# Altium schematic symbol library PARSEC(1).SchLib: 17 symbols
Pins are listed as number, name and electrical type; pins without a type are passive.

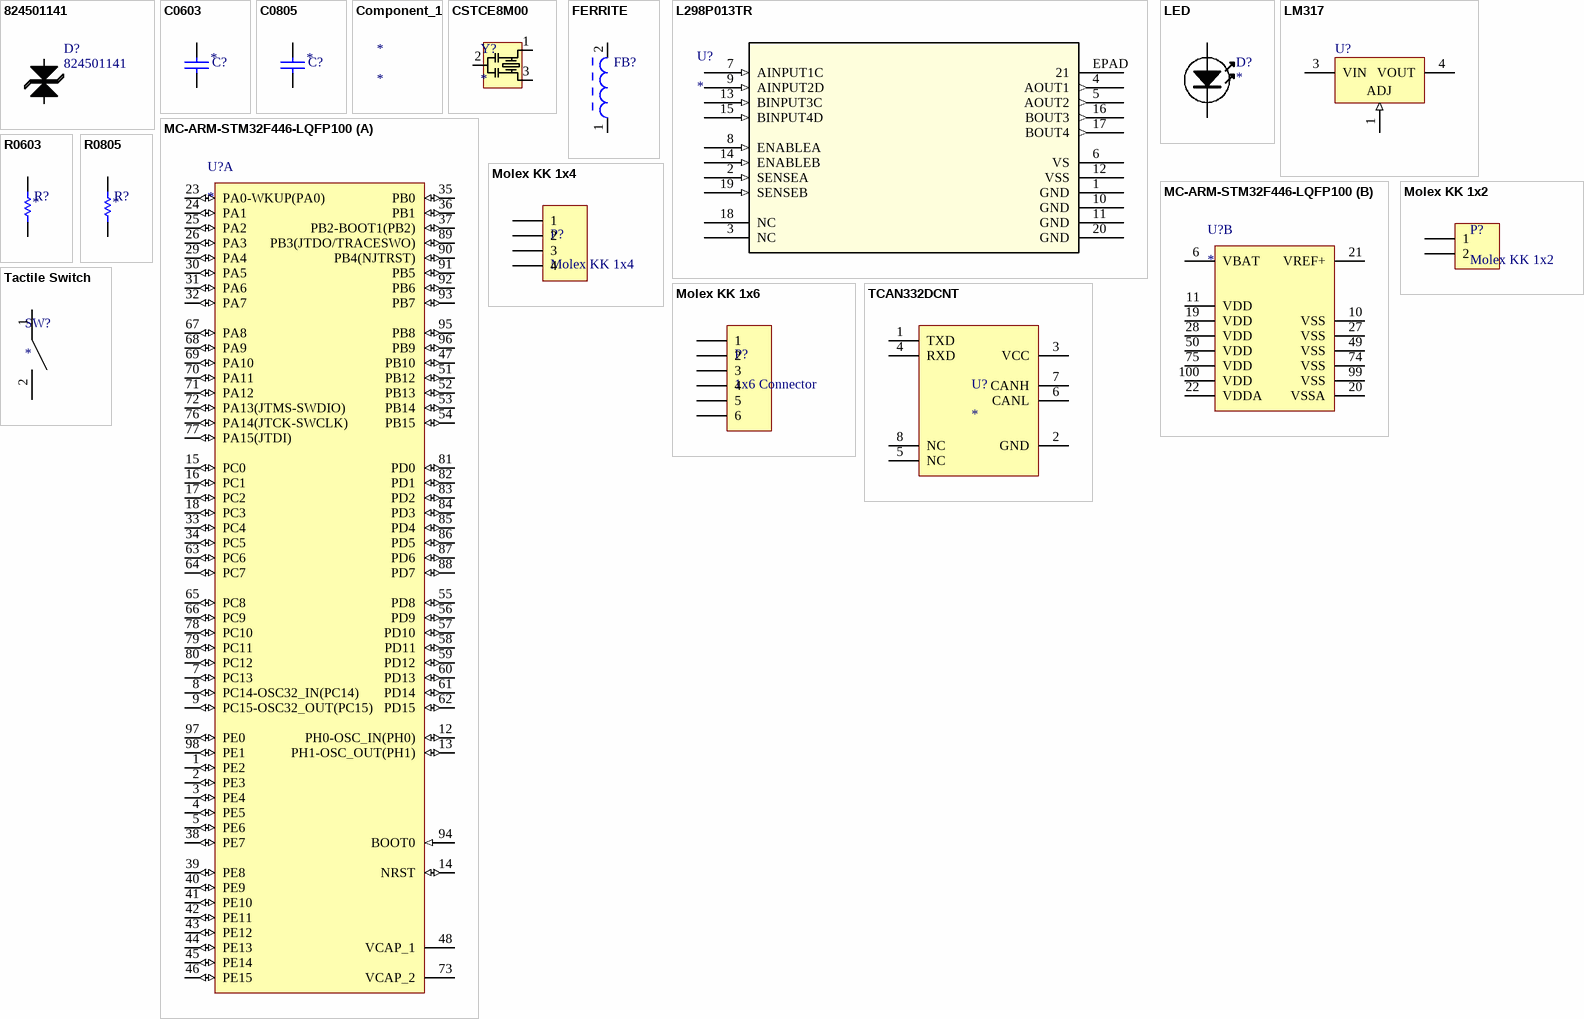
[diagram p0: symbols 824501141 to TCAN332DCNT]

## 824501141
designator D?
TVS DIODE 14V 23.2V DO214AC; Supplier 1: Digi-Key; Supplier Part Number 1: SMCJ120CABTR-ND
footprint DIODE-SMA
pins: A, K
2 alternate drawings of the same symbol

## C0603
designator C?
0603 Capacitor; Value: *
footprint C0603 (Chip Capacitor, Body 1.6x0.8mm, Height 1.0mm, IPC Medium Density)
pins: 1, 2

## C0805
designator C?
0805 Capacitor; Value: *
footprint C0805 (Chip Capacitor, Body 2.0x1.2mm, Height 0.75mm, IPC Medium Density)
pins: 1, 2

## Component_1
designator *

## CSTCE8M00
designator Y?
8MHz Ceramic Resonator
footprint 8MHz Ceramic Resonator (8MHz Ceramic Resonator Murata)
pins: 1 OSC1, 2 GND, 3 OSC2

## FERRITE
designator FB?
FERRITE BEAD 0805
footprint R0805 (Chip Resistor, Body 2.0x1.3mm, IPC Medium Density)
footprint R0603 (Chip Resistor, Body 1.6x0.8mm, IPC Medium Density)
pins: 1, 2

## L298P013TR
designator U?
Imported; Manufacturer_Part_Number: L298P013TR; Vendor: ST Microelectronics; Built_By: EMA_UL_Team; C: Copyright (C) 2015 Accelerated Designs. All rights reserved; Value: Value; Type: Type; RefDes: RefDes
footprint PowerSO-20
pins: 1 GND, 2 SENSEA (in), 3 NC, 4 AOUT1 (out), 5 AOUT2 (out), 6 VS (power), 7 AINPUT1C (in), 8 ENABLEA (in), 9 AINPUT2D (in), 10 GND, 11 GND, 12 VSS (power), 13 BINPUT3C (in), 14 ENABLEB (in), 15 BINPUT4D (in), 16 BOUT3 (out), 17 BOUT4 (out), 18 NC, 19 SENSEB (in), 20 GND, EPAD 21

## LED
designator D?
LED; Manufacturer: OSRAM Opto Semiconductors Inc; Manufacturer Part Number: LS T676-Q1R2-1-Z; Reel: D13
footprint 0805LED
pins: A, K

## LM317
designator U?
Linear Voltage Regulator
footprint D-PAK (D-PAK, 4-Leads, Body 6.1x6.5mm, Pitch 2.28mm, Lead Span 9.7mm, IPC Medium Density)
pins: 1 ADJ (in), 3 VIN (power), 4 VOUT (power)

## MC-ARM-STM32F446-LQFP100
designator U?
footprint STM-LQFP100_N (Thin QFP, 100-Leads, Body 14x14mm, Pitch 0.5mm, IPC Medium Density)
part A pins: 1 PE2 (io) "PE2/TRACECLK,SPI4_SCK,SAI1_MCLK_A,QUADSPI_BK1_IO2,FMC_A23,EVENTOUT", 2 PE3 (io) "PE3/TRACED0,SAI1_SD_B,FMC_A19,EVENTOUT", 3 PE4 (io) "PE4/TRACED1,SPI4_NSS,SAI1_FS_A,FMC_A20,DCMI_D4,EVENTOUT", 4 PE5 (io) "PE5/TRACED2,TIM9_CH1,SPI4_MISO,SAI1_SCK_A,FMC_A21,DCMI_D6,EVENTOUT", 5 PE6 (io) "PE6/TRACED3,TIM9_CH2,SPI4_MOSI,SAI1_SD_A,FMC_A22,DCMI_D7,EVENTOUT", 7 PC13 (io) "PC13/EVENTOUT/TAMP_1/WKUP1", 8 PC14-OSC32_IN(PC14) (io) "PC14/EVENTOUT/OSC32_IN", 9 PC15-OSC32_OUT(PC15) (io) "PC15/EVENTOUT/OSC32_OUT", 12 PH0-OSC_IN(PH0) (io) "PH0/EVENTOUT/OSC_IN", 13 PH1-OSC_OUT(PH1) (io) "PH1/EVENTOUT/OSC_OUT", 14 NRST (io), 15 PC0 (io) "PC0/SAI1_MCLK_B,OTG_HS_ULPI_STP,FMC_SDNWE,EVENTOUT/ADC123_IN10", 16 PC1 (io) "PC1/SPI3_MOSI/I2S3_SD,SAI1_SD_A,SPI2_MOSI/I2S2_SD,EVENTOUT/ADC123_IN11", 17 PC2 (io) "PC2/SPI2_MISO,OTG_HS_ULPI_DIR,FMC_SDNE0,EVENTOUT/ADC123_IN12", 18 PC3 (io) "PC3/SPI2_MOSI/I2S2_SD,OTG_HS_ULPI_NXT,FMC_SDCKE0,EVENTOUT/ADC123_IN13", 23 PA0-WKUP(PA0) (io) "PA0-WKUP(PA0)/TIM2_CH1/TIM2_ETR,TIM5_CH1,TIM8_ETR,USART2_CTS,UART4_TX,EVENTOUT/ADC123_IN0,WKUP0/TAMP_2", 24 PA1 (io) "PA1/TIM2_CH2,TIM5_CH2,USART2_RTS,UART4_RX,QUADSPI_BK1_IO3,SAI2_MCLK_B,EVENTOUT/ADC123_IN1", 25 PA2 (io) "PA2/TIM2_CH3,TIM5_CH3,TIM9_CH1,USART2_TX,SAI2_SCK_B,EVENTOUT/ADC123_IN2", 26 PA3 (io) "PA3/TIM2_CH4,TIM5_CH4,TIM9_CH2,SAI1_FS_A,USART2_RX,OTG_HS_ULPI_D0,EVENTOUT/ADC123_IN3", 29 PA4 (io) "PA4/SPI1_NSS/I2S1_WS,SPI3_NSS/I2S3_WS,USART2_CK,OTG_HS_SOF,DCMI_HSYNC,EVENTOUT/ADC12_IN4,DAC_OUT1", 30 PA5 (io) "PA5/TIM2_CH1/TIM2_ETR,TIM8_CH1N,SPI1_SCK/I2S1_CK,OTG_HS_ULPI_CK,EVENTOUT/ADC12_IN5,DAC_OUT2", 31 PA6 (io) "PA6/TIM1_BKIN,TIM3_CH1,TIM8_BKIN,SPI1_MISO,I2S2_MCK,TIM13_CH1,DCMI_PIXCLK,EVENTOUT/ADC12_IN6", 32 PA7 (io) "PA7/TIM1_CH1N,TIM3_CH2,TIM8_CH1N,SPI1_MOSI/I2S1_SD,TIM14_CH1,FMC_SDNWE,EVENTOUT/ADC12_IN7", 33 PC4 (io) "PC4/I2S1_MCK,SPDIFRX_IN2,FMC_SDNE0,EVENTOUT/ADC12_IN14", 34 PC5 (io) "PC5/USART3_RX,SPDIFRX_IN3,FMC_SDCKE0,EVENTOUT/ADC12_IN15", 35 PB0 (io) "PB0/TIM1_CH2N,TIM3_CH3,TIM8_CH2N,SPI3_MOSI/I2S3_SD,UART4_CTS,OTG_HS_ULPI_D1,SDIO_D1,EVENTOUT/ADC12_IN8", 36 PB1 (io) "PB1/TIM1_CH3N,TIM3_CH4,TIM8_CH3N,OTG_HS_ULPI_D2,SDIO_D2,EVENTOUT/ADC12_IN9", 37 PB2-BOOT1(PB2) (io) "PB2-BOOT1(PB2)/TIM2_CH4,SAI1_SD_A,SPI3_MOSI/I2S3_SD,QUADSPI_CLK,OTG_HS_ULPI_D4,SDIO_CK,EVENTOUT", 38 PE7 (io) "PE7/TIM1_ETR,UART5_RX,QUADSPI_BK2_IO0,FMC_D4,EVENTOUT", 39 PE8 (io) "PE8/TIM1_CH1N,UART5_TX,QUADSPI_BK2_IO1,FMC_D5,EVENTOUT", 40 PE9 (io) "PE9/TIM1_CH1,QUADSPI_BK2_IO2,FMC_D6,EVENTOUT", 41 PE10 (io) "PE10/TIM1_CH2N,QUADSPI_BK2_IO3,FMC_D7,EVENTOUT", 42 PE11 (io) "PE11/TIM1_CH2,SPI4_NSS,SAI2_SD_B,FMC_D8,EVENTOUT", 43 PE12 (io) "PE12/TIM1_CH3N,SPI4_SCK,SAI2_SCK_B,FMC_D9,EVENTOUT", 44 PE13 (io) "PE13/TIM1_CH3,SPI4_MISO,SAI2_FS_B,FMC_D10,EVENTOUT", 45 PE14 (io) "PE14/TIM1_CH4,SPI4_MOSI,SAI2_MCLK_B,FMC_D11,EVENTOUT", 46 PE15 (io) "PE15/TIM1_BKIN,FMC_D12,EVENTOUT", 47 PB10 (io) "PB10/TIM2_CH3,I2C2_SCL,SPI2_SCK/I2S2_CK,SAI1_SCK_A,USART3_TX,OTG_HS_ULPI_D3,EVENTOUT", 48 VCAP_1, 51 PB12 (io) "PB12/TIM1_BKIN,I2C2_SMBA,SPI2_NSS/I2S2_WS,SAI1_SCK_B,USART3_CK,CAN2_RX,OTG_HS_ULPI_D5,OTG_HS_ID,EVENTOUT", 52 PB13 (io) "PB13/TIM1_CH1N,SPI2_SCK/I2S2_CK,USART3_CTS,CAN2_TX,OTG_HS_ULPI_D6,EVENTOUT/OTG_HS_VBUS", 53 PB14 (io) "PB14/TIM1_CH2N,TIM8_CH2N,SPI2_MISO,USART3_RTS,TIM12_CH1,OTG_HS_DM,EVENTOUT", 54 PB15 (io) "PB15/RTC_REFIN,TIM1_CH3N,TIM8_CH3N,SPI2_MOSI/I2S2_SD,TIM12_CH2,OTG_HS_DP,EVENTOUT", 55 PD8 (io) "PD8/USART3_TX,SPDIFRX_IN1,FMC_D13,EVENTOUT", 56 PD9 (io) "PD9/USART3_RX,FMC_D14,EVENTOUT", 57 PD10 (io) "PD10/USART3_CK,FMC_D15,EVENTOUT", 58 PD11 (io) "PD11/FMPI2C1_SMBA,USART3_CTS,QUADSPI_BK1_IO0,SAI2_SD_A,FMC_A16,EVENTOUT", 59 PD12 (io) "PD12/TIM4_CH1,FMPI2C1_SCL,USART3_RTS,QUADSPI_BK1_IO1,SAI2_FS_A,FMC_A17,EVENTOUT", 60 PD13 (io) "PD13/TIM4_CH2,FMPI2C1_SDA,QUADSPI_BK1_IO3,SAI2_SCK_A,FMC_A18,EVENTOUT", 61 PD14 (io) "PD14/TIM4_CH3,FMPI2C1_SCL,SAI2_SCK_A,FMC_D0,EVENTOUT", 62 PD15 (io) "PD15/TIM4_CH4,FMPI2C1_SDA,FMC_D1,EVENTOUT", 63 PC6 (io) "PC6/TIM3_CH1,TIM8_CH1,FMPI2C1_SCL,I2S2_MCK,USART6_TX,SDIO_D6,DCMI_D0,EVENTOUT", 64 PC7 (io) "PC7/TIM3_CH2,TIM8_CH2,FMPI2C1_SDA,SPI2_SCK/I2S2_CK,I2S3_MCK,SPDIFRX_IN1,USART6_RX,SDIO_D7,DCMI_D1,EVENTOUT", 65 PC8 (io) "PC8/TRACED0,TIM3_CH3,TIM8_CH3,UART5_RTS,USART6_CK,SDIO_D0,DCMI_D2,EVENTOUT", 66 PC9 (io) "PC9/MCO2,TIM3_CH4,TIM8_CH4,I2C3_SDA,I2S_CKIN,UART5_CTS,QUADSPI_BK1_IO0,SDIO_D1,DCMI_D3,EVENTOUT", 67 PA8 (io) "PA8/MCO1,TIM1_CH1,I2C3_SCL,USART1_CK,OTG_FS_SOF,EVENTOUT", 68 PA9 (io) "PA9/TIM1_CH2,I2C3_SMBA,SPI2_SCK/I2S2_CK,SAI1_SD_B,USART1_TX,DCMI_D0,EVENTOUT/OTG_FS_VBUS", 69 PA10 (io) "PA10/TIM1_CH3,USART1_RX,OTG_FS_ID,DCMI_D1,EVENTOUT", 70 PA11 (io) "PA11/TIM1_CH4,USART1_CTS,CAN1_RX,OTG_FS_DM,EVENTOUT", 71 PA12 (io) "PA12/TIM1_ETR,USART1_RTS,SAI2_FS_B,CAN1_TX,OTG_FS_DP,EVENTOUT", 72 PA13(JTMS-SWDIO) (io) "PA13/JTMS-SWDIO,EVENTOUT", 73 VCAP_2, 76 PA14(JTCK-SWCLK) (io) "PA14/JTCK-SWCLK,EVENTOUT", 77 PA15(JTDI) (io) "PA15/JTDI,TIM2_CH1/TIM2_ETR,HDMI_CEC,SPI1_NSS/I2S1_WS,SPI3_NSS/I2S3_WS,UART4_RTS,EVENTOUT", 78 PC10 (io) "PC10/SPI3_SCK/I2S3_CK,USART3_TX,UART4_TX,QUADSPI_BK1_IO1,SDIO_D2,DCMI_D8,EVENTOUT", 79 PC11 (io) "PC11/SPI3_MISO,USART3_RX,UART4_RX,QUADSPI_BK2_NCS,SDIO_D3,DCMI_D4,EVENTOUT", 80 PC12 (io) "PC12/I2C2_SDA,SPI3_MOSI/I2S3_SD,USART3_CK,UART5_TX,SDIO_CK,DCMI_D9,EVENTOUT", 81 PD0 (io) "PD0/SPI4_MISO,SPI3_MOSI/I2S3_SD,CAN1_RX,FMC_D2,EVENTOUT", 82 PD1 (io) "PD1/SPI2_NSS/I2S2_WS,CAN1_TX,FMC_D3,EVENTOUT", 83 PD2 (io) "PD2/TIM3_ETR,UART5_RX,SDIO_CMD,DCMI_D11,EVENTOUT", 84 PD3 (io) "PD3/TRACED1,SPI2_SCK/I2S2_CK,USART2_CTS,QUADSPI_CLK,FMC_CLK,DCMI_D5,EVENTOUT", 85 PD4 (io) "PD4/USART2_RTS,FMC_NOE,EVENTOUT", 86 PD5 (io) "PD5/USART2_TX,FMC_NWE,EVENTOUT", 87 PD6 (io) "PD6/SPI3_MOSI/I2S3_SD,SAI1_SD_A,USART2_RX,FMC_NWAIT,DCMI_D10,EVENTOUT", 88 PD7 (io) "PD7/USART2_CK,SPDIFRX_IN0,FMC_NE1,EVENTOUT", 89 PB3(JTDO/TRACESWO) (io) "PB3/JTDO/TRACESWO,TIM2_CH2,I2C2_SDA,SPI1_SCK/I2S1_CK,SPI3_SCK/I2S3_CK,EVENTOUT", 90 PB4(NJTRST) (io) "PB4/NJTRST,TIM3_CH1,I2C3_SDA,SPI1_MISO,SPI3_MISO,SPI2_NSS/I2S2_WS,EVENTOUT", 91 PB5 (io) "PB5/TIM3_CH2,I2C1_SMBA,SPI1_MOSI/I2S1_SD,SPI3_MOSI/I2S3_SD,CAN2_RX,OTG_HS_ULPI_D7,FMC_SDCKE1,DCMI_D10,EVENTOUT", 92 PB6 (io) "PB6/TIM4_CH1,HDMI_CEC,I2C1_SCL,USART1_TX,CAN2_TX,QUADSPI_BK1_NCS,FMC_SDNE1,DCMI_D5,EVENTOUT", 93 PB7 (io) "PB7/TIM4_CH2,I2C1_SDA,USART1_RX,SPDIFRX_IN0,FMC_NL,DCMI_VSYNC,EVENTOUT", 94 BOOT0 (in) "BOOT0/VPP", 95 PB8 (io) "PB8/TIM2_CH1/TIM2_ETR,TIM4_CH3,TIM10_CH1,I2C1_SCL,CAN1_RX,SDIO_D4,DCMI_D6,EVENTOUT", 96 PB9 (io) "PB9/TIM2_CH2,TIM4_CH4,TIM11_CH1,I2C1_SDA,SPI2_NSS/I2S2_WS,SAI1_FS_B,CAN1_TX,SDIO_D5,DCMI_D7,EVENTOUT", 97 PE0 (io) "PE0/TIM4_ETR,SAI2_MCLK_A,FMC_NBL0,DCMI_D2,EVENTOUT", 98 PE1 (io) "PE1/FMC_NBL1,DCMI_D3,EVENTOUT"
part B pins: 6 VBAT (power), 10 VSS (power), 11 VDD (power), 19 VDD (power), 20 VSSA (power), 21 VREF+ (power), 22 VDDA (power), 27 VSS (power), 28 VDD (power), 49 VSS (power), 50 VDD (power), 74 VSS (power), 75 VDD (power), 99 VSS (power), 100 VDD (power)

## Molex KK 1x2
designator P?
1x2 Molex KK Connector
footprint Molex KK 2x1
pins: 1, 2

## Molex KK 1x4
designator P?
1x4 Molex KK Connector
footprint Molex KK 4x1
pins: 1, 2, 3, 4

## Molex KK 1x6
designator P?, comment 1x6 Connector
1x6 Molex KK Connector
footprint Molex KK 6x1
pins: 1, 2, 3, 4, 5, 6

## R0603
designator R?
RESISTOR 0603; Value: *
footprint R0603 (Chip Resistor, Body 1.6x0.8mm, IPC Medium Density)
pins: 1, 2

## R0805
designator R?
RESISTOR 0805; Value: *
footprint R0805 (Chip Resistor, Body 2.0x1.3mm, IPC Medium Density)
pins: 1, 2

## Tactile Switch
designator SW?
TL3301AF160QG
footprint Tactile Switch
pins: 1, 2 1

## TCAN332DCNT
designator U?
IC TXRX CAN 3.3V SOT23-8
footprint SOT-23-8
pins: 1 TXD, 2 GND, 3 VCC, 4 RXD, 5 NC, 6 CANL, 7 CANH, 8 NC